# Altium schematic symbol library TF-115.SchLib: 1 symbol
Pins are listed as number, name and electrical type; pins without a type are passive.

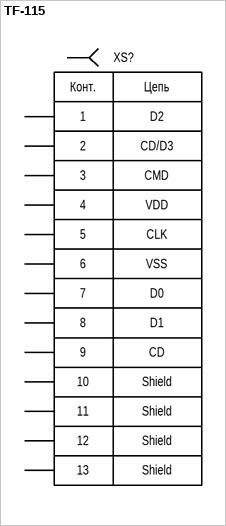
[diagram p0: symbol TF-115]

## TF-115
designator XS?
pins: 1 D2, 2 CD/D3, 3 CMD, 4 VDD, 5 CLK, 6 VSS, 7 D0, 8 D1, 9 CD, 10 GND1, 11 GND2, 12 GND3, 13 GND4
text: Конт.; Цепь; Shield